# Altium schematic symbol library a_Valider_TEMP.SchLib: 8 symbols
Pins are listed as number, name and electrical type; pins without a type are passive.

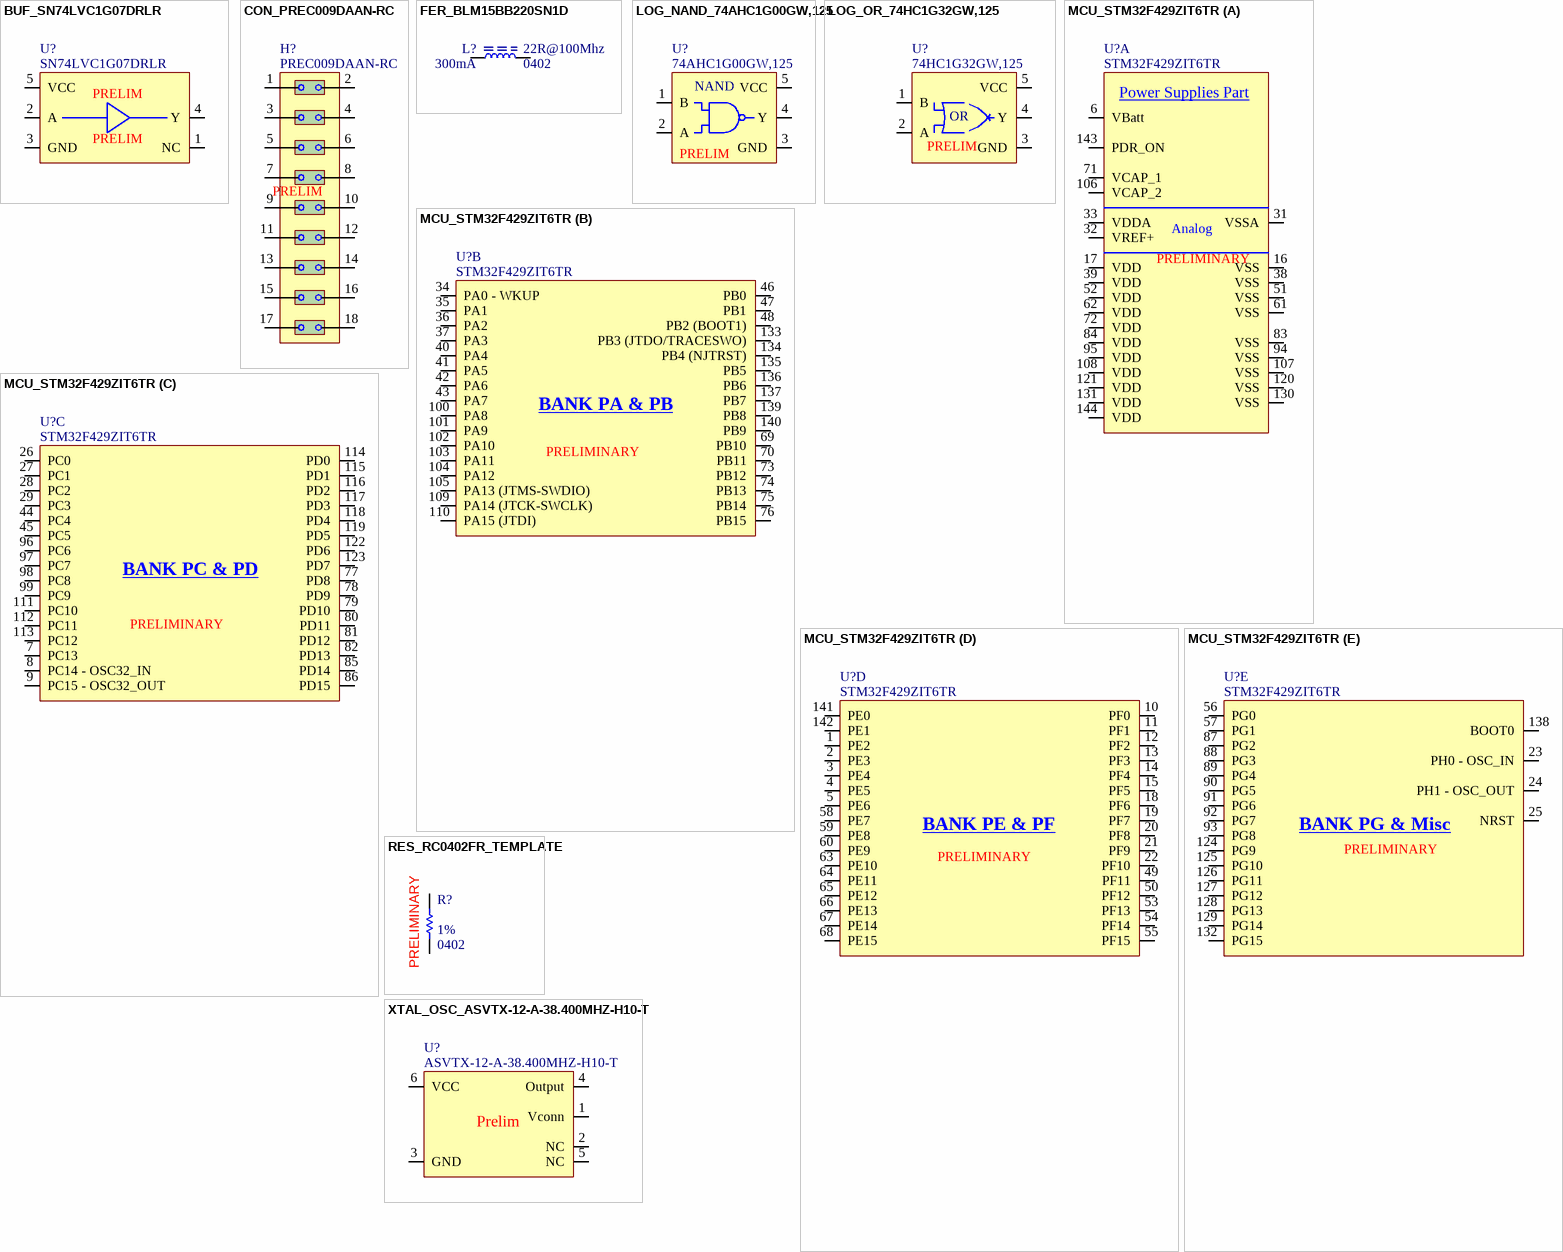
[diagram p0: symbols BUF_SN74LVC1G07DRLR to XTAL_OSC_ASVTX-12-A-38.400MHZ-H10-T]

## BUF_SN74LVC1G07DRLR
designator U?, comment SN74LVC1G07DRLR
BUF -  Buffer, Non-Inverting 1 Element 1 Bit per Element Open Drain Output SOT-5; Value: 1 bit; Voltage Rating: 1.65V ~ 5.5V; Current Rating: +-100mA; GRAMS Lib Spec: 2.7; Magnetic Material: Unknown; Polarized: YES; HelpURL: https://www.ti.com/general/docs/suppproductinfo.tsp?distId=10&gotoUrl=http%3A%2F%2Fwww.ti.com%2Flit%2Fgpn%2Fsn74lvc1g07; CreatedBy/Date: Philippe Arsenault/2021-03-26; Temperature: -40°C ~ 125°C (TA); Package: SOT-5; Assembly Type: SMT; Part Number #1: SN74LVC1G07DRLR; Supplier 1: Digi-Key; Supplier Part Number 1: 296-18010-1-ND
footprint BUF_SN74LVC1G07DRLR (SOT-5)
pins: 1 NC, 2 A, 3 GND, 4 Y, 5 VCC
text: PRELIM

## CON_PREC009DAAN-RC
designator H?, comment PREC009DAAN-RC
CON - Connector Header Through Hole 18 position 0.100" (2.54mm); Manufacturer #1: Sullins Connector Solutions; Value: 9x2; Current Rating: 3A; GRAMS Lib Spec: 2.7; Magnetic Material: Unknown; Polarized: Yes; Tolerance: *; Voltage Rating: *; Power Max: *; HelpURL: https://drawings-pdf.s3.amazonaws.com/11636.pdf; Temperature: -40°C ~ 105°C; Package: TH 2x9; Manufacturer #2: *; Assembly Type: TH; Part Number #2: *; Part Number #1: PREC009DAAN-RC; CreatedBy/Date: Philippe Arsenault/2021-03-27; Supplier 1: Digi-Key; Supplier Part Number 1: S2012EC-09-ND
footprint CON_PREC009DAAN-RC (18 pin header 100 mils)
pins: 1, 2, 3, 4, 5, 6, 7, 8, 9, 10, 11, 12, 13, 14, 15, 16, 17, 18
text: PRELIM

## FER_BLM15BB220SN1D
designator L?, comment value 22R@100Mhz  Current Rating: 300mA  Package: 0402  (hidden comment: BLM15BB220SN1D)
FER - FERRITE BEAD 22 OHM - 0402; Manufacturer #1: Murata; GRAMS Lib Spec: 2.8; Magnetic Material: YES; Polarized: NO; Cryo: UNKNOWN; Tolerance: *; Voltage Rating: *; Power Max: *; HelpURL: https://www.murata.com/en-us/products/productdata/8796740059166/ENFA0018.pdf; CreatedBy/Date: Philippe Arsenault/2020-11-03; Temperature: -55°C ~ 125°C; Manufacturer #2: *; Note: *; Assembly Type: SMD; Part Number #2: *; Part Number #1: BLM15BB220SN1D; Supplier 1: Digi-Key; Supplier Part Number 1: 490-5187-1-ND
footprint FER_0402 (Ferrite - 0402)
pins: 1, 2

## LOG_NAND_74AHC1G00GW,125
designator U?, comment 74AHC1G00GW,125
LOG - NAND Gate IC 1 Channel - 5-TSSOP; Manufacturer #1: Nexperia USA Inc.; Value: NAND Gate 5V; Voltage Rating: 2V ~ 5.5V; Current Rating: 25mA; GRAMS Lib Spec: 2.8; Magnetic Material: Unknown; Polarized: Yes; Power Max: -; HelpURL: https://assets.nexperia.com/documents/data-sheet/74AHC_AHCT1G00.pdf; CreatedBy/Date: Philippe Arsenault/2021-04-10; Temperature: -40°C ~ 125°C (TA); Package: 5-TSSOP; Assembly Type: SMD; Part Number #1: 74AHC1G00GW,125; Supplier 1: Digi-Key; Supplier Part Number 1: 1727-3146-1-ND
footprint Nexperia_5-TTSOP (5TTSOP)
pins: 1 B, 2 A, 3 GND, 4 Y, 5 VCC
text: NAND; PRELIM

## LOG_OR_74HC1G32GW,125
designator U?, comment 74HC1G32GW,125
LOG - OR Gate IC 1 Channel - 5-TSSOP; Manufacturer #1: Nexperia USA Inc.; Value: OR GATE 5V; Voltage Rating: 2V ~ 6V; Current Rating: 20mA; GRAMS Lib Spec: 2.8; Magnetic Material: Unknown; Polarized: Yes; Power Max: -; HelpURL: https://assets.nexperia.com/documents/data-sheet/74HC_HCT1G32.pdf; CreatedBy/Date: Philippe Arsenault/2021-04-10; Temperature: -40°C ~ 125°C (TA); Package: TSSOP-5; Assembly Type: SMD; Part Number #1: 74HC1G32GW,125; Supplier 1: Digi-Key; Supplier Part Number 1: 1727-6040-1-ND
footprint Nexperia_5-TTSOP (5TTSOP)
pins: 1 B, 2 A, 3 GND, 4 Y, 5 VCC
text: OR; PRELIM

## MCU_STM32F429ZIT6TR
designator U?, comment STM32F429ZIT6TR
MCU - ARM® Cortex®-M4 STM32F4 Microcontroller IC 32-Bit 180MHz 2MB (2M x 8) FLASH - 144-LQFP (20x20); Manufacturer #1: ST Microelectronics; Value: ARM Cortex-M4; Voltage Rating: 1.8V ~ 3.6V; Current Rating: 270mA; Power Max: 500mW; GRAMS Lib Spec: 2.7; Note: Internal Oscillator; Magnetic Material: Unknown; Polarized: Yes; Tolerance: *; HelpURL: https://www.st.com/content/ccc/resource/technical/document/datasheet/03/b4/b2/36/4c/72/49/29/DM00071990.pdf/files/DM00071990.pdf/jcr:content/translations/en.DM00071990.pdf; CreatedBy/Date: Philippe Arsenault/2021-01-21; VerifiedBy: *; Temperature: -40°C ~ 85°C; Package: 144-LQFP; Manufacturer #2: *; Assembly Type: Surface Mount; Part Number #2: *; Part Number #1: STM32F429ZIT6TR; Supplier 1: Digi-Key; Supplier Part Number 1: 497-19353-1-ND
footprint MCU_STM32F429ZIT6TR (LQFP-144)
part A pins: 6 VBatt, 16 VSS, 17 VDD, 31 VSSA, 32 VREF+, 33 VDDA, 38 VSS, 39 VDD, 51 VSS, 52 VDD, 61 VSS, 62 VDD, 71 VCAP_1, 72 VDD, 83 VSS, 84 VDD, 94 VSS, 95 VDD, 106 VCAP_2, 107 VSS, 108 VDD, 120 VSS, 121 VDD, 130 VSS, 131 VDD, 143 PDR_ON, 144 VDD
part B pins: 34 PA0 - WKUP, 35 PA1, 36 PA2, 37 PA3, 40 PA4, 41 PA5, 42 PA6, 43 PA7, 46 PB0, 47 PB1, 48 PB2 (BOOT1), 69 PB10, 70 PB11, 73 PB12, 74 PB13, 75 PB14, 76 PB15, 100 PA8, 101 PA9, 102 PA10, 103 PA11, 104 PA12, 105 PA13 (JTMS-SWDIO), 109 PA14 (JTCK-SWCLK), 110 PA15 (JTDI), 133 PB3 (JTDO/TRACESWO), 134 PB4 (NJTRST), 135 PB5, 136 PB6, 137 PB7, 139 PB8, 140 PB9
part C pins: 7 PC13, 8 PC14 - OSC32_IN, 9 PC15 - OSC32_OUT, 26 PC0, 27 PC1, 28 PC2, 29 PC3, 44 PC4, 45 PC5, 77 PD8, 78 PD9, 79 PD10, 80 PD11, 81 PD12, 82 PD13, 85 PD14, 86 PD15, 96 PC6, 97 PC7, 98 PC8, 99 PC9, 111 PC10, 112 PC11, 113 PC12, 114 PD0, 115 PD1, 116 PD2, 117 PD3, 118 PD4, 119 PD5, 122 PD6, 123 PD7
part D pins: 1 PE2, 2 PE3, 3 PE4, 4 PE5, 5 PE6, 10 PF0, 11 PF1, 12 PF2, 13 PF3, 14 PF4, 15 PF5, 18 PF6, 19 PF7, 20 PF8, 21 PF9, 22 PF10, 49 PF11, 50 PF12, 53 PF13, 54 PF14, 55 PF15, 58 PE7, 59 PE8, 60 PE9, 63 PE10, 64 PE11, 65 PE12, 66 PE13, 67 PE14, 68 PE15, 141 PE0, 142 PE1
part E pins: 23 PH0 - OSC_IN, 24 PH1 - OSC_OUT, 25 NRST, 56 PG0, 57 PG1, 87 PG2, 88 PG3, 89 PG4, 90 PG5, 91 PG6, 92 PG7, 93 PG8, 124 PG9, 125 PG10, 126 PG11, 127 PG12, 128 PG13, 129 PG14, 132 PG15, 138 BOOT0
part A text: Power Supplies Part; Analog; PRELIMINARY
part B text: BANK PA & PB; PRELIMINARY
part C text: BANK PC & PD; PRELIMINARY
part D text: BANK PE & PF; PRELIMINARY
part E text: BANK PG & Misc; PRELIMINARY

## RES_RC0402FR_TEMPLATE
designator R?, comment Tolerance: 1%  Package: 0402  (hidden comment: RC0402FR- XXXXX)
RES - XXXX 1% 1/16W - 0402; Manufacturer #1: Yageo; GRAMS Lib Spec: 2.8c; Magnetic Material: Unknown; Polarized: No; Voltage Rating: 50V; Assembly Type: SMD; CreatedBy/Date: Louis-Daniel Gaulin; Current Rating: *; Manufacturer #2: *; Note: *; Part Number #2: *; Power Max: 1/16W; Temperature: -55°C ~ 155°C; Supplier 1: Digi-Key
footprint RES_0402 (Resistor - 0402)
pins: 1, 2
text: PRELIMINARY

## XTAL_OSC_ASVTX-12-A-38.400MHZ-H10-T
designator U?, comment ASVTX-12-A-38.400MHZ-H10-T
XTAl_OSC -  38.4000MHz VCTCXO Clipped Sine Wave Oscillator 3V; Manufacturer #1: Abracon LLC; Tolerance: ±1ppm; Current Rating: 2.5mA; Power Max: 7.5mW; GRAMS Lib Spec: 2.7; Magnetic Material: Unknown; Polarized: Yes; Value: 38.4000MHz; Voltage Rating: 3V; HelpURL: https://abracon.com/Oscillators/ASTX12_ASVTX12.pdf; CreatedBy/Date: Philippe Arsenault/2021-04-02; Temperature: -30°C ~ 85°C; Package: 4-SMD; Part Number #1: ASVTX-12-A-38.400MHZ-H10-T; Supplier 1: Digi-Key; Supplier Part Number 1: 535-11790-1-ND
footprint XTAL_OSC_ASVTX-12-A-38.400MHZ-H10-T (4-SMD)
pins: 1 Vconn, 2 NC, 3 GND, 4 Output, 5 NC, 6 VCC
text: Prelim